# Altium schematic symbol library CD74HC132E.SchLib: 1 symbol
Pins are listed as number, name and electrical type; pins without a type are passive.

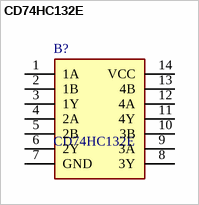
[diagram p0: symbol CD74HC132E]

## CD74HC132E
designator B?
High Speed CMOS Logic Quad 2-Input Schmitt-Triggered NAND Gates; Manufacturer_Name: Texas Instruments; Geometry.Height: 5.08mm; Mouser Part Number: 595-CD74HC132E; Mouser Price/Stock: https://www.mouser.co.uk/ProductDetail/Texas-Instruments/CD74HC132E?qs=pt%2FIv5r0EPf0PBWbsCsSEA%3D%3D; Manufacturer_Part_Number: CD74HC132E; Datasheet Link: http://www.ti.com/lit/gpn/cd74hc132
footprint DIP794W53P254L1930H508Q14N
pins: 1 1A, 2 1B, 3 1Y, 4 2A, 5 2B, 6 2Y, 7 GND, 8 3Y, 9 3A, 10 3B, 11 4Y, 12 4A, 13 4B, 14 VCC